# EAGLE library part FSA3357K8X (library Fairchild_By_element14_Batch_1)
SP3T Analog Switch
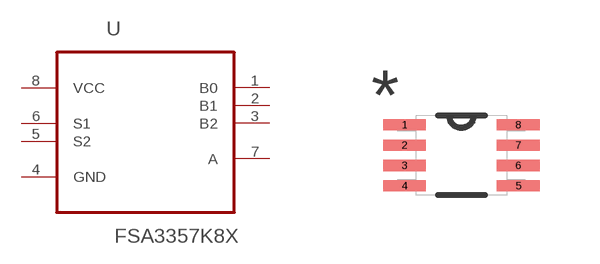
[diagram p189: symbol with the pads of SOP50P310X90-8N; footprint SOP50P310X90-8N]

Designator prefix U

## FSA3357K8X (MPN: FSA3357K8X; OC_FARNELL: 1564492; OC_NEWARK: 58K1535; PACKAGE: SOP-8; SUPPLIER: Fairchild Semiconductor)  [SOP50P310X90-8N]
1  B0
2  B1
3  B2
4  GND  pas
5  S2  in
6  S1  in
7  A
8  VCC  pwr

## Footprint SOP50P310X90-8N (pad centres in mm)
smd 1.067 x 0.279: 1 -1.422,0.762; 2 -1.422,0.254; 3 -1.422,-0.254; 4 -1.422,-0.762; 5 1.422,-0.762; 6 1.422,-0.254; 7 1.422,0.254; 8 1.422,0.762